# EAGLE library part FPC-60WAY (library pimoroni-fpc)
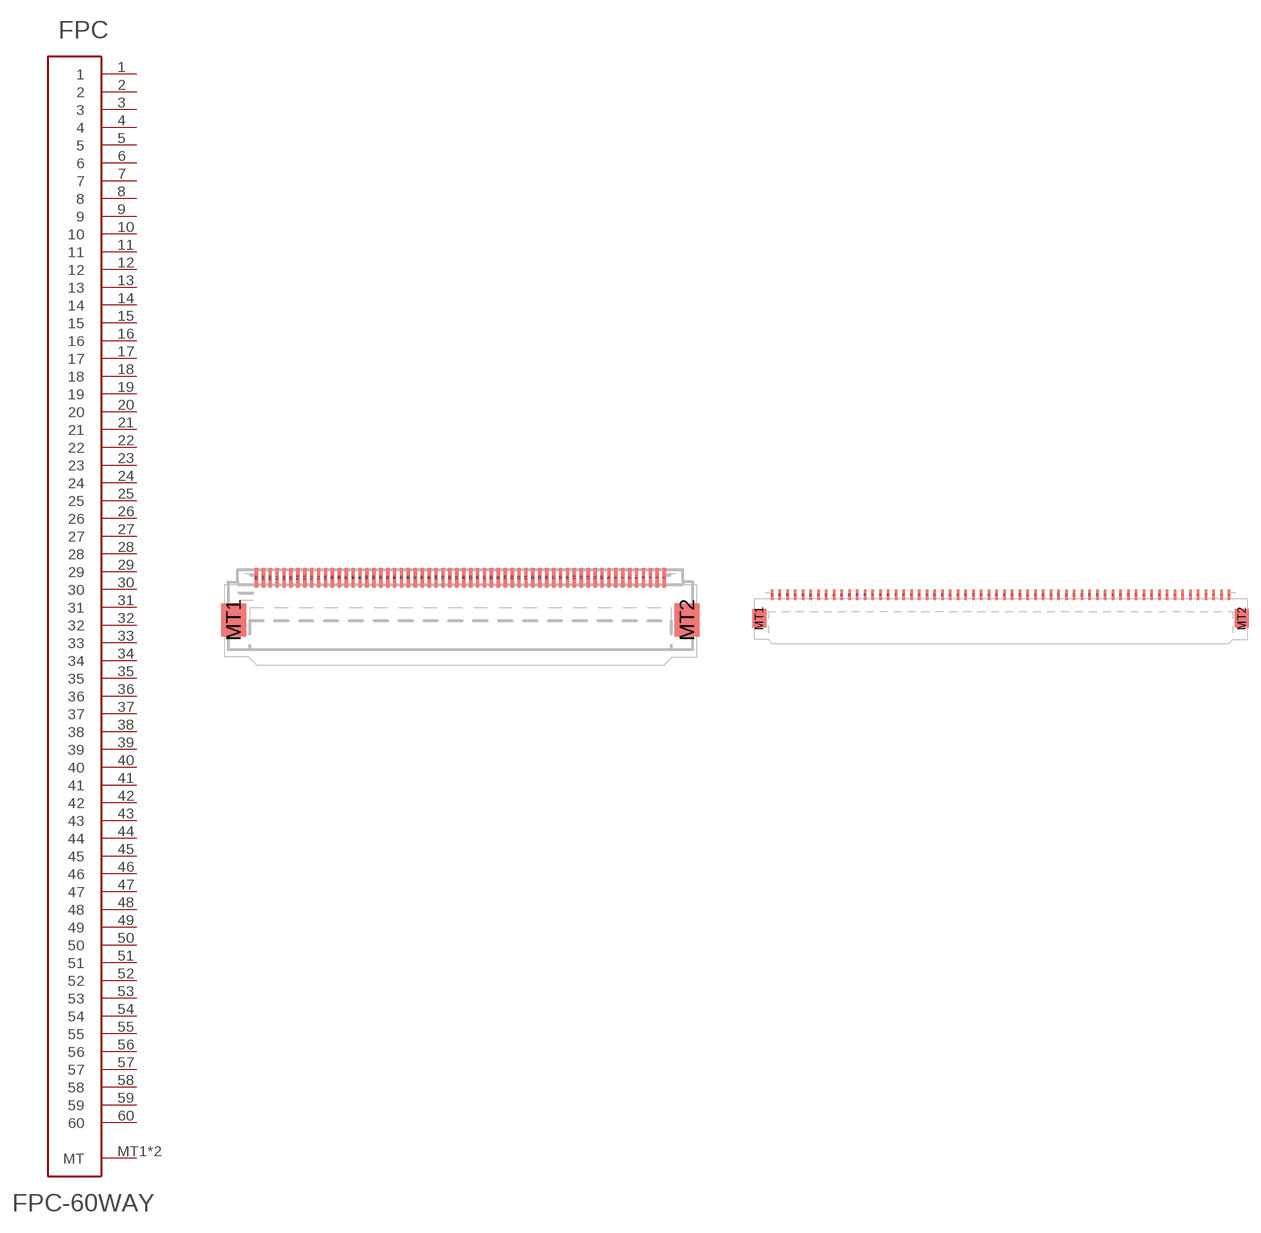
[diagram p55: symbol with the pads of FPC-0.5MM-60WAY; footprints FPC-0.5MM-60WAY, FPC-1.0MM-60WAY]

Designator prefix FPC

## FPC-60WAY0.5  [FPC-0.5MM-60WAY]
1  1
2  2
3  3
4  4
5  5
6  6
7  7
8  8
9  9
10  10
11  11
12  12
13  13
14  14
15  15
16  16
17  17
18  18
19  19
20  20
21  21
22  22
23  23
24  24
25  25
26  26
27  27
28  28
29  29
30  30
31  31
32  32
33  33
34  34
35  35
36  36
37  37
38  38
39  39
40  40
41  41
42  42
43  43
44  44
45  45
46  46
47  47
48  48
49  49
50  50
51  51
52  52
53  53
54  54
55  55
56  56
57  57
58  58
59  59
60  60
MT1  MT
MT2  MT

## FPC-60WAY1.0  [FPC-1.0MM-60WAY]
Pads as for FPC-0.5MM-60WAY

## Footprint FPC-0.5MM-60WAY (pad centres in mm)
smd 0.24 x 1.4: 1 14.75,0.7; 2 14.25,0.7; 3 13.75,0.7; 4 13.25,0.7; 5 12.75,0.7; 6 12.25,0.7; 7 11.75,0.7; 8 11.25,0.7; 9 10.75,0.7; 10 10.25,0.7; 11 9.75,0.7; 12 9.25,0.7; 13 8.75,0.7; 14 8.25,0.7; 15 7.75,0.7; 16 7.25,0.7; 17 6.75,0.7; 18 6.25,0.7; 19 5.75,0.7; 20 5.25,0.7; 21 4.75,0.7; 22 4.25,0.7; 23 3.75,0.7; 24 3.25,0.7; 25 2.75,0.7; 26 2.25,0.7; 27 1.75,0.7; 28 1.25,0.7; 29 0.75,0.7; 30 0.25,0.7; 31 -0.25,0.7; 32 -0.75,0.7; 33 -1.25,0.7; 34 -1.75,0.7; 35 -2.25,0.7; 36 -2.75,0.7; 37 -3.25,0.7; 38 -3.75,0.7; 39 -4.25,0.7; 40 -4.75,0.7; 41 -5.25,0.7; 42 -5.75,0.7; 43 -6.25,0.7; 44 -6.75,0.7; 45 -7.25,0.7; 46 -7.75,0.7; 47 -8.25,0.7; 48 -8.75,0.7; 49 -9.25,0.7; 50 -9.75,0.7; 51 -10.25,0.7; 52 -10.75,0.7; 53 -11.25,0.7; 54 -11.75,0.7; 55 -12.25,0.7; 56 -12.75,0.7; 57 -13.25,0.7; 58 -13.75,0.7; 59 -14.25,0.7; 60 -14.75,0.7
smd 1.8 x 2.4: MT1 -16.4,-2.35; MT2 16.4,-2.35

## Footprint FPC-1.0MM-60WAY (pad centres in mm)
smd 0.35 x 1.4: 1 29.5,0.7; 2 28.5,0.7; 3 27.5,0.7; 4 26.5,0.7; 5 25.5,0.7; 6 24.5,0.7; 7 23.5,0.7; 8 22.5,0.7; 9 21.5,0.7; 10 20.5,0.7; 11 19.5,0.7; 12 18.5,0.7; 13 17.5,0.7; 14 16.5,0.7; 15 15.5,0.7; 16 14.5,0.7; 17 13.5,0.7; 18 12.5,0.7; 19 11.5,0.7; 20 10.5,0.7; 21 9.5,0.7; 22 8.5,0.7; 23 7.5,0.7; 24 6.5,0.7; 25 5.5,0.7; 26 4.5,0.7; 27 3.5,0.7; 28 2.5,0.7; 29 1.5,0.7; 30 0.5,0.7; 31 -0.5,0.7; 32 -1.5,0.7; 33 -2.5,0.7; 34 -3.5,0.7; 35 -4.5,0.7; 36 -5.5,0.7; 37 -6.5,0.7; 38 -7.5,0.7; 39 -8.5,0.7; 40 -9.5,0.7; 41 -10.5,0.7; 42 -11.5,0.7; 43 -12.5,0.7; 44 -13.5,0.7; 45 -14.5,0.7; 46 -15.5,0.7; 47 -16.5,0.7; 48 -17.5,0.7; 49 -18.5,0.7; 50 -19.5,0.7; 51 -20.5,0.7; 52 -21.5,0.7; 53 -22.5,0.7; 54 -23.5,0.7; 55 -24.5,0.7; 56 -25.5,0.7; 57 -26.5,0.7; 58 -27.5,0.7; 59 -28.5,0.7; 60 -29.5,0.7
smd 1.8 x 2.4: MT1 -31.15,-2.35; MT2 31.15,-2.35